# EAGLE library part 750317406 (library WE-OLTI)
WE-OLTI Offline Flyback Transformers Characteristics Nominal input voltage: 85–265 VAC (120–375 VDC) Small size Low leakage inductance Multiple-output options Operating temperature: −40 °C to +125 °C Isolation Voltage: 2 kVAC to 5 kVAC Options for fixed frequency or quasi-resonant mode operation Most products meet reinforced insulation Applications Industrial controls USB chargers Utility metering devices Process controls Factory automation Security systems Garage door opener auxiliary supplies Home appliances Especially designed for several ICs from Texas Instruments <https://www.we-online.com/components/media/o814034v209%20UtOLTI%20Group%20CGI.jpg> Details see: www.we-online.com/en/components/products/WE-OLTI <www.we-online.com/catalog/WE-OLTI/?utm_source=eagle_model&utm_medium=description_link&utm_campaign=eisos_eagle> Created by Ella Wu 2025-02-06 2025 (C) Wurth Elektronik
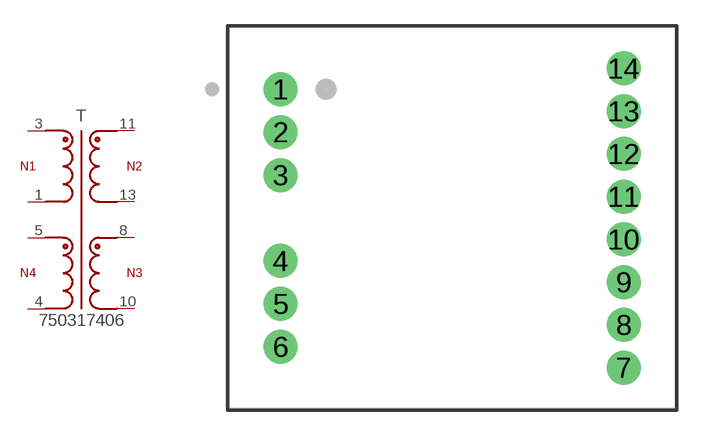
[diagram p5: symbol with the pads of WE-OLTI_EE20/10/6_L22.2W26H16.5; footprint WE-OLTI_EE20/10/6_L22.2W26H16.5]

Designator prefix T

## 750317406 (DATASHEET-URL: https://www.we-online.com/redexpert/spec/750317406?ae; FSWITCH: 100kHz; HEIGHT: 16mm; IOUT1: 1100mA; IOUT2: 10mA; ISAT: 1.5A; L: 600uH; LENGTH: 21.5mm; MOUNT: THT; N: 21:3:1:6; PART-NUMBER: 750317406; SIZE: EE20/10/6; VALUE: 600uH; VAUX: 25V; VIN: 85 - 400 V (AC); VOUT1: 12V; VOUT2: 4V; VT: 4800V(AC); WIDTH: 25mm)  [WE-OLTI_EE20/10/6_L22.2W26H16.5]
1  P2  pas
3  P1  pas
4  A2  pas
5  A1  pas
8  S3  pas
10  S4  pas
11  S1  pas
13  S2  pas

## Footprint WE-OLTI_EE20/10/6_L22.2W26H16.5 (pad centres in mm)
WE-OLTI Offline Flyback Transformers Size:EE20/10/6,THT,14pins LXWXH=22.2X26X16mm Bobbin: 070-5643
drill 1.32: 1 -10,7.5; 2 -10,5; 3 -10,2.5; 4 -10,-2.5; 5 -10,-5; 6 -10,-7.5; 7 10,-8.715; 8 10,-6.225; 9 10,-3.735; 10 10,-1.245; 11 10,1.245; 12 10,3.735; 13 10,6.225; 14 10,8.715